# Altium schematic symbol library OSC_FXO536R-SMD.SchLib: 1 symbol
Pins are listed as number, name and electrical type; pins without a type are passive.

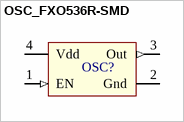
[diagram p0: symbol OSC_FXO536R-SMD]

## OSC_FXO536R-SMD
designator OSC?  (value not drawn)
pins: 1 EN (in), 2 Gnd (power), 3 Out (out), 4 Vdd (power)